# Altium footprint library STeRG-Passives-Standard.PcbLib: 54 footprints (part 1 of 4)
Each footprint in its own frame and in the unit in brackets; x right, y up, seen from the top. Pads: shape width x height; smd on the part's side, far side on the other; paste and mask are expansions set on the pad; w line width, h text height; cw(c..) or ccw(c..) is an arc to the next point about the centre after c.
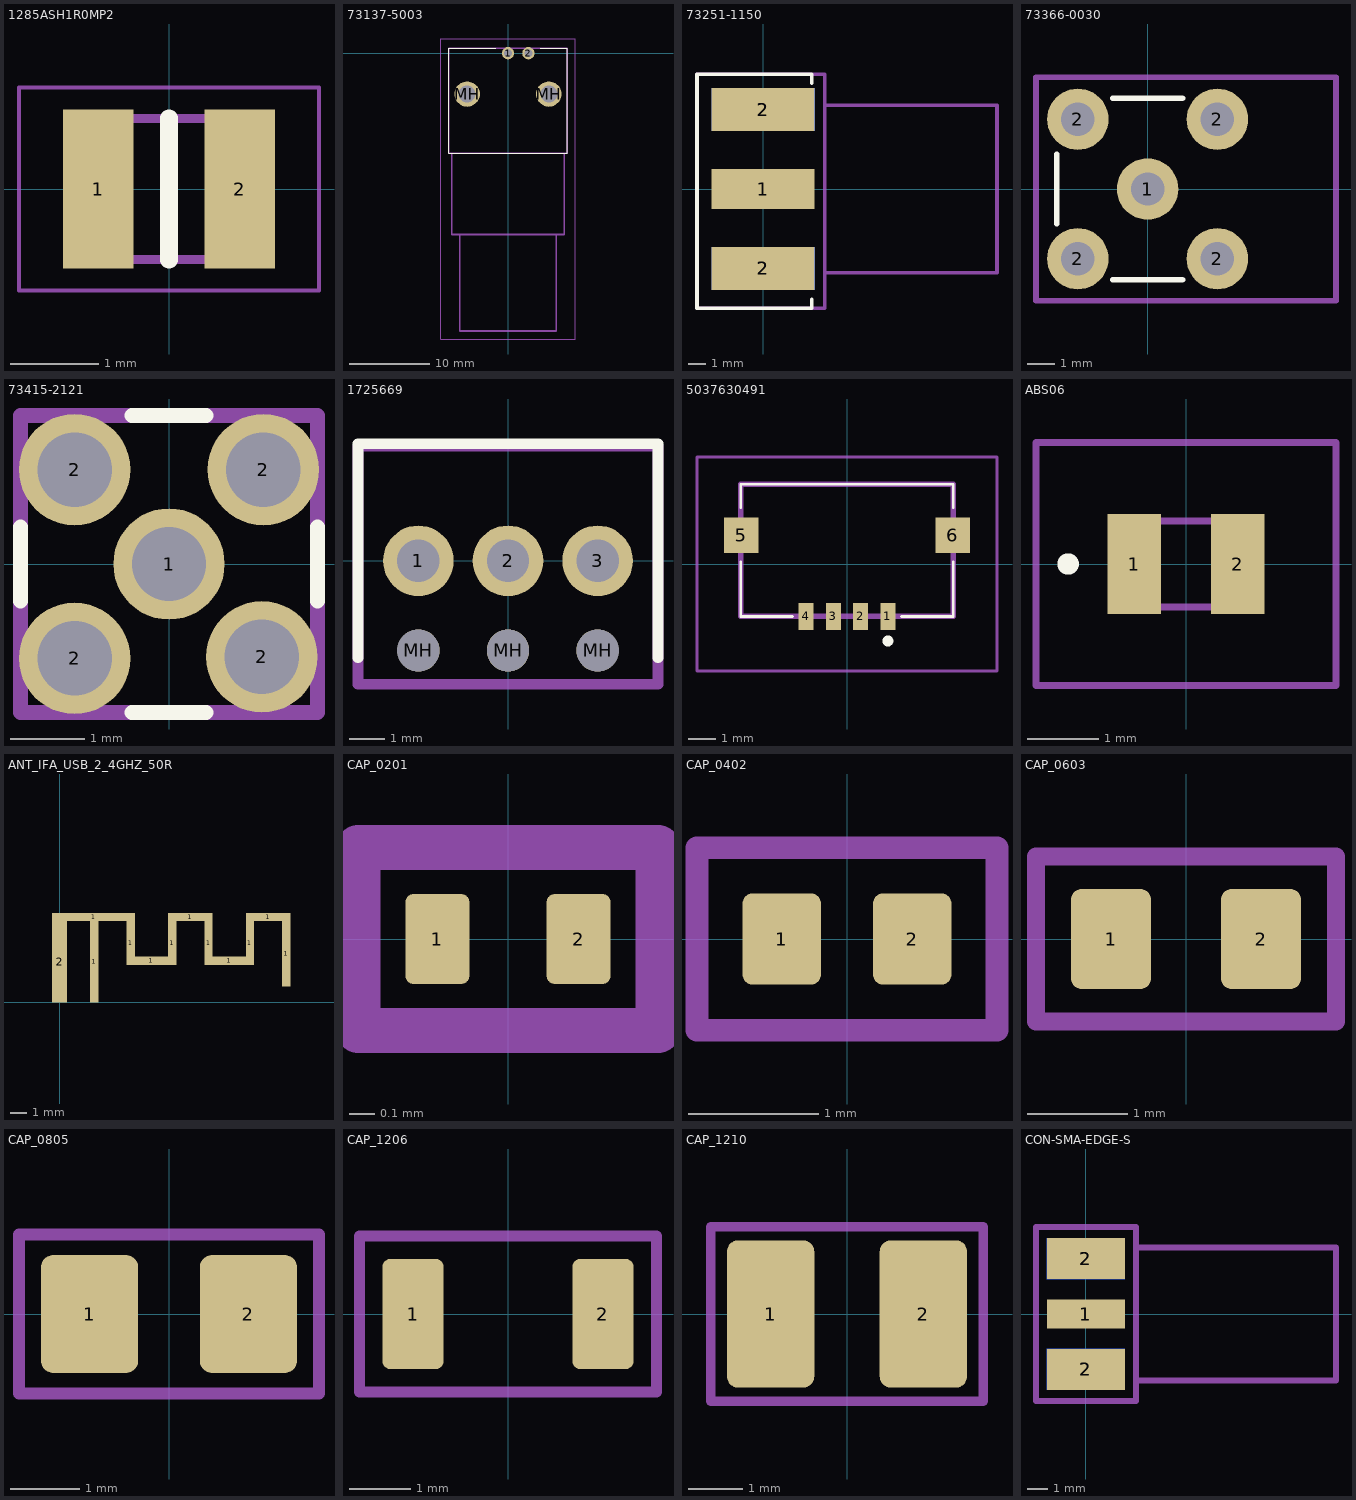
[diagram p0: the footprints below, top view; thin cyan lines are the x and y axes]

## 1285ASH1R0MP2 [mm]
pads (2):
  rect 0.8x1.8 smd: 1(-0.8,0) 2(0.8,0)
Top Overlay:
  lines w0.2: 0,-0.8 0,0.8
Mechanical 13:
  lines w0.1: -1,-0.8 -1,0.8 1,0.8 1,-0.8 -1,-0.8
Mechanical 15:
  lines w0.05: -1.7,-1.15 -1.7,1.15 1.7,1.15 1.7,-1.15 -1.7,-1.15
3D body "DFE201610E-2R2M=P2.stp": height 1, standoff 0, extent -1,-0.8 1,0.8

## 73137-5003 [mm]
pads (4):
  round 1.54 hole 0.99: 1(0,0) 2(2.54,0)
  round 3.165 hole 2.11: MH(-5.08,-5.08) MH(5.08,-5.08)
Top Overlay:
  lines w0.1: -1.5,0.64 -7.38,0.64 -7.38,-12.44 7.38,-12.44 7.38,0.64 4,0.64
Mechanical 13:
  lines w0.2: -7.38,-12.44 7.38,-12.44 7.38,0.64 -7.38,0.64 -7.38,-12.44 ; -7,-22.54 7,-22.54 7,-12.44 -7,-12.44 -7,-22.54 ; -6,-34.54 6,-34.54 6,-22.54 -6,-22.54 -6,-34.54
  text "'.Designator'" at -6.315,-6.4 h1
Mechanical 15:
  lines w0.1: -8.38,-35.54 8.38,-35.54 8.38,1.77 -8.38,1.77 -8.38,-35.54
3D body "73137-5003.stp": height 12.51, standoff -4.84, extent -7.38,-33.18 7.38,2

## 73251-1150 [mm]
pads (5):
  rect 5.84x2.29 smd: 1(0,0)
  rect 5.84x2.42 smd: 2(0,-4.5) 2(0,4.5)
  rect 5.84x2.42 smd far side: 2(0,-4.5) 2(0,4.5)
Top Overlay:
  lines w0.2: 2.75,-6.25 2.75,-6.75 ; 2.75,6 2.75,6.5 ; 2.75,-6.75 ccw(c2.75,-6.75) 2.75,-6.75 ; 2.75,-6.75 -3.75,-6.75 -3.75,6.5 2.75,6.5 ; 2.75,6.5 ccw(c2.75,6.5) 2.75,6.5
Mechanical 13:
  lines w0.2: 3.5,-4.75 13.25,-4.75 13.25,4.75 3.5,4.75 ; -3.75,-6.75 3.5,-6.75 3.5,6.5 -3.75,6.5 -3.75,-6.75
  text "PCB EDGE" at 4.15,2.1 h0.3
  text "'.Designator'" at -5.665,-0.417 h1
3D body "732511150.stp": height 4.36, standoff -3.57, extent -1.137,-4.75 13.137,4.775

## 73366-0030 [mm]
pads (5):
  round 2.2 hole 1.2: 1(0,0) 2(-2.5,-2.5) 2(-2.5,2.5) 2(2.5,-2.5) 2(2.5,2.5)
Top Overlay:
  lines w0.2: -3.25,-1.25 -3.25,1.25 ; -1.25,-3.25 1.25,-3.25 ; -1.25,3.25 1.25,3.25
Mechanical 13:
  lines w0.2: -4,-4 -4,4 6.75,4 6.75,-4 -4,-4
  text "'.Designator'" at -5.665,-0.417 h1
3D body "733660030.stp": height 6.31, standoff -3.69, extent -3,-3 6.53,3

## 73415-2121 [mm]
pads (5):
  round 1.5 hole 1 mask+0.07: 1(0,0) 2(-1.27,-1.27) 2(-1.27,1.27) 2(1.25,-1.25) 2(1.27,1.27)
Top Overlay:
  lines w0.2: -2,-0.5 -2,0.5 ; -0.5,-2 0.5,-2 ; -0.5,2 0.5,2 ; 2,-0.5 2,0.5
Mechanical 13:
  lines w0.2: -2,-2 -2,2 2,2 2,-2 -2,-2
  text "'.Designator'" at -5.665,-0.417 h1
3D body "734152121.stp": height 4.73, standoff -2.76, extent -1.725,-1.725 1.725,1.725

## 1725669 [mm]
pads (6):
  round 2 hole 1.2: 1(-2.54,0) 2(0,0) 3(2.54,0)
  round 1.2 hole 1.2 unplated: MH(-2.54,-2.54) MH(0,-2.54) MH(2.54,-2.54)
Top Overlay:
  lines w0.3: -4.25,-2.75 -4.25,3.32 4.25,3.32 4.25,-2.75
Mechanical 13:
  lines w0.3: -4.25,-3.5 4.25,-3.5 4.25,3.25 -4.25,3.25 -4.25,-3.5
  text "'.Designator'" at -5.665,-0.417 h1
3D body "1725669.stp": height 8.51, standoff -3.49, extent -4.03,-3.1 4.05,3.1

## 5037630491 [mm]
pads (6):
  rect 0.55x1 smd: 1(1.5,-1.925) 2(0.5,-1.925) 3(-0.5,-1.925) 4(-1.5,-1.925)
  rect 1.26x1.3 smd: 5(-3.875,1.055) 6(3.875,1.055)
Top Overlay:
  lines w0.1: -3.9,0.075 -3.9,-1.925 -2,-1.925 ; -3.9,2.075 -3.9,2.925 3.9,2.925 3.9,2.075 ; 2,-1.925 3.9,-1.925 3.9,0.075
  lines w0.2: 1.4,-2.825 cw(c1.5,-2.825) 1.6,-2.825 cw(c1.5,-2.825) 1.4,-2.825
Mechanical 13:
  lines w0.2: -3.9,-1.925 3.9,-1.925 3.9,2.925 -3.9,2.925 -3.9,-1.925
Mechanical 15:
  lines w0.1: -5.505,-3.925 5.505,-3.925 5.505,3.925 -5.505,3.925 -5.505,-3.925
3D body "5037630491.step": height 1.42, standoff -0.08, extent -4.3,-2.142 4.3,3.048

## ABS06 [mm]
pads (2):
  rect 0.75x1.4 smd: 1(-0.725,0) 2(0.725,0)
Top Overlay:
  lines w0.2: -1.7,0 ccw(c-1.65,0) -1.6,0 ; -1.7,0 cw(c-1.65,0) -1.6,0 ; -1.7,0 ccw(c-1.65,0) -1.6,0
Mechanical 13:
  lines w0.1: -1,-0.6 -1,0.6 1,0.6 1,-0.6 -1,-0.6
Mechanical 15:
  lines w0.1: -2.1,-1.7 -2.1,1.7 2.1,1.7 2.1,-1.7 -2.1,-1.7
3D body "ABS06-32.768KHZ-1-T.stp": height 0.6, standoff 0, extent -1,-0.6 1,0.6

## ANT_IFA_USB_2_4GHZ_50R [mm]
pads (12):
  rect 5x0.5 smd paste-2539.97 mask+0.102: 1(2.05,5.15)
  rect 0.5x4.9 smd paste-2539.97 mask+0.102: 1(2.1,2.45)
  rect 0.5x2.64 smd paste-2539.97 mask+0.102: 1(4.3,3.58) 1(6.8,3.58) 1(9,3.58) 1(11.5,3.58)
  rect 2x0.5 smd paste-2539.97 mask+0.102: 1(5.55,2.51) 1(10.25,2.51)
  rect 2.7x0.5 smd paste-2539.97 mask+0.102: 1(7.9,5.15) 1(12.6,5.15)
  rect 0.5x3.94 smd paste-2539.97 mask+0.102: 1(13.7,2.93)
  rect 0.9x4.9 smd paste-2539.97 mask+0.102: 2(0,2.45)

## CAP_0201 [mm]
pads (2):
  rrect25% 0.25x0.35 smd mask+0.05: 1(-0.275,0) 2(0.275,0)
Mechanical 13:
  lines w0.175: -0.584,-0.356 -0.584,0.356 0.584,0.356 0.584,-0.356 -0.584,-0.356
  text "'.Designator'" at -5.665,-0.417 h1
3D body "C0201.stp": height 0.34, standoff 0.01, extent -0.315,-0.166 0.315,0.164

## CAP_0402 [mm]
pads (2):
  rrect25% 0.6x0.7 smd: 1(-0.5,0) 2(0.5,0)
Mechanical 13:
  lines w0.175: -1.15,-0.7 -1.15,0.7 1.15,0.7 1.15,-0.7 -1.15,-0.7
  text "'.Designator'" at -5.665,-0.29 h1
3D body "C0402.step": height 0.37, standoff 0.01, extent -0.5,-0.265 0.5,0.265

## CAP_0603 [mm]
pads (2):
  rrect25% 0.8x1 smd: 1(-0.75,0) 2(0.75,0)
Mechanical 13:
  lines w0.175: -1.5,-0.825 1.5,-0.825 1.5,0.825 -1.5,0.825 -1.5,-0.825
  text "'.Designator'" at -5.665,-0.417 h1
3D body "C0603.step": height 0.51, standoff 0.01, extent -0.8,-0.4 0.8,0.4

## CAP_0805 [mm]
pads (2):
  rrect25% 1.4x1.7 smd: 1(-1.143,0) 2(1.143,0)
Mechanical 13:
  lines w0.175: -2.159,-1.143 -2.159,1.143 2.159,1.143 2.159,-1.143 -2.159,-1.143
  text "'.Designator'" at -5.665,-0.417 h1
3D body "C0805.stp": height 1.01, standoff 0.01, extent -1.15,-0.762 1.15,0.788

## CAP_1206 [mm]
pads (2):
  rrect25% 1x1.8 smd: 1(-1.55,0) 2(1.55,0)
Mechanical 13:
  lines w0.175: -2.425,-1.275 -2.425,1.275 2.425,1.275 2.425,-1.275 -2.425,-1.275
  text "'.Designator'" at -5.665,-0.417 h1
3D body "C1206.step": height 0.94, standoff 0, extent -1.6,-0.8 1.6,0.8

## CAP_1210 [mm]
height 1.35
pads (2):
  rrect25% 1.6x2.7 smd: 1(-1.4,0) 2(1.4,0)
Mechanical 13:
  lines w0.175: -2.5,-1.6 2.5,-1.6 2.5,1.6 -2.5,1.6 -2.5,-1.6
  text "'.Designator'" at -5.665,-0.417 h1
3D body "C1210.step": height 2.5, standoff 0, extent -1.6,-1.25 1.6,1.25

## CON-SMA-EDGE-S [mm]
pads (5):
  rect 3.8x1.4 smd mask+0.07: 1(0,0)
  rect 3.8x2 smd mask+0.07: 2(0,-2.7) 2(0,2.7)
  rect 3.8x2 smd far side mask+0.07: 2(0,-2.7) 2(0,2.7)
Mechanical 13:
  lines w0.3: 2.45,-3.25 12.2,-3.25 12.2,3.25 2.45,3.25 ; -2.433,-4.25 2.45,-4.25 2.45,-4 2.45,4.25 -2.433,4.25 -2.433,-4.25
  text "'.Designator'" at -5.84,-0.925 h1
3D body "CON-SMA-EDGE-S.step": height 3.64, standoff -2.71, extent -1.16,-3.175 12.17,3.175